# EAGLE library part SYNAPSE-SJ-STCKING (library 0_jc-custom-eagle6)
Standard layout for expansion modules using Synapse Wireless boards
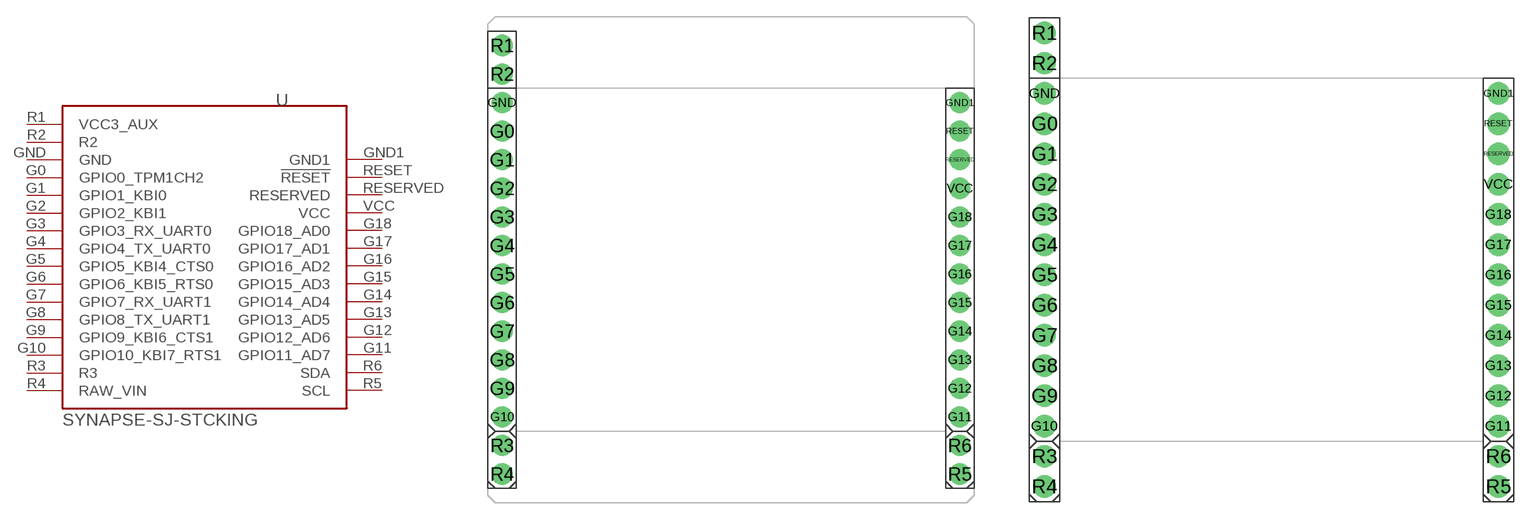
[diagram p5: symbol with the pads of SYNSJ-STACK; footprints SYNSJ-STACK, SYNSJ-STACK-SMALLER]

Designator prefix -

## SYNAPSE-SJ-STCKINGD30-1600  [SYNSJ-STACK]
G0  GPIO0_TPM1CH2
G1  GPIO1_KBI0
G2  GPIO2_KBI1
G3  GPIO3_RX_UART0
G4  GPIO4_TX_UART0
G5  GPIO5_KBI4_CTS0
G6  GPIO6_KBI5_RTS0
G7  GPIO7_RX_UART1
G8  GPIO8_TX_UART1
G9  GPIO9_KBI6_CTS1
G10  GPIO10_KBI7_RTS1
G11  GPIO11_AD7
G12  GPIO12_AD6
G13  GPIO13_AD5
G14  GPIO14_AD4
G15  GPIO15_AD3
G16  GPIO16_AD2
G17  GPIO17_AD1
G18  GPIO18_AD0
GND  GND
GND1  GND1
R1  VCC3_AUX
R2  R2
R3  R3
R4  RAW_VIN
R5  SCL
R6  SDA
RESERVED  RESERVED
RESET  !RESET
VCC  VCC

## SYNAPSE-SJ-STCKINGD30-1400  [SYNSJ-STACK-SMALLER]
Pads as for SYNSJ-STACK

## Footprint SYNSJ-STACK (pad centres in mm)
Standard layout 30 pin DIP 1600 mil for expansion on base Synapse Wireless boards
drill 1.016 pad 1.88: G0 0,-7.62; G1 0,-10.16; G2 0,-12.7; G3 0,-15.24; G4 0,-17.78; G5 0,-20.32; G6 0,-22.86; G7 0,-25.4; G8 0,-27.94; G9 0,-30.48; G10 0,-33.02; G11 40.64,-33.02; G12 40.64,-30.48; G13 40.64,-27.94; G14 40.64,-25.4; G15 40.64,-22.86; G16 40.64,-20.32; G17 40.64,-17.78; G18 40.64,-15.24; GND 0,-5.08; GND1 40.64,-5.08; R1 0,0; R2 0,-2.54; R3 0,-35.56; R4 0,-38.1; R5 40.64,-38.1; R6 40.64,-35.56; RESERVED 40.64,-10.16; RESET 40.64,-7.62; VCC 40.64,-12.7

## Footprint SYNSJ-STACK-SMALLER (pad centres in mm)
drill 1.016 pad 1.88: G0 -19.05,11.43; G1 -19.05,8.89; G2 -19.05,6.35; G3 -19.05,3.81; G4 -19.05,1.27; G5 -19.05,-1.27; G6 -19.05,-3.81; G7 -19.05,-6.35; G8 -19.05,-8.89; G9 -19.05,-11.43; G10 -19.05,-13.97; G11 19.05,-13.97; G12 19.05,-11.43; G13 19.05,-8.89; G14 19.05,-6.35; G15 19.05,-3.81; G16 19.05,-1.27; G17 19.05,1.27; G18 19.05,3.81; GND -19.05,13.97; GND1 19.05,13.97; R1 -19.05,19.05; R2 -19.05,16.51; R3 -19.05,-16.51; R4 -19.05,-19.05; R5 19.05,-19.05; R6 19.05,-16.51; RESERVED 19.05,8.89; RESET 19.05,11.43; VCC 19.05,6.35